# Altium footprint library PCB - RESISTOR - CHIP - KOA RES RK73 RN73 0402_1005.PCBLIB: 1 footprints
Each footprint in its own frame and in the unit in brackets; x right, y up, seen from the top. Pads: shape width x height; smd on the part's side, far side on the other; paste and mask are expansions set on the pad; w line width, h text height; cw(c..) or ccw(c..) is an arc to the next point about the centre after c.
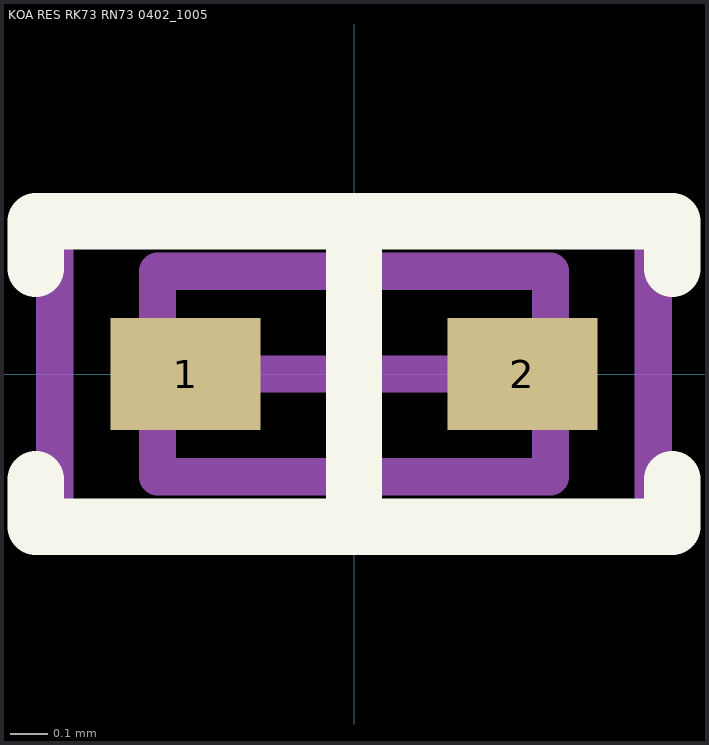
[diagram p0: the footprint, top view; thin cyan lines are the x and y axes]

## KOA RES RK73 RN73 0402_1005 [mm] "Chip Resistor, 2-Leads, Body 1.0x0.5mm"
height 0.4
pads (2):
  rect 0.4x0.3 smd: 1(-0.45,0) 2(0.45,0)
Top Overlay:
  lines w0.15: -0.85,-0.281 -0.85,-0.408 0.85,-0.408 0.85,-0.281 ; -0.85,0.281 -0.85,0.408 0.85,0.408 0.85,0.281 ; 0,-0.4 0,0.4
Mechanical 13:
  lines w0.1: -0.525,-0.275 -0.525,0.275 0.525,0.275 0.525,-0.275 -0.525,-0.275
Mechanical 15:
  lines w0.1: -0.275,0 0.275,0 ; 0,-0.275 0,0.275 ; -0.8,-0.4 -0.8,0.4 0.8,0.4 0.8,-0.4 -0.8,-0.4
3D body "0402 resistor.STEP": height 0.35, standoff 0, extent -0.5,-0.25 0.5,0.25